# Altium footprint library CAY16-2201F4LF.PcbLib: 1 footprints
Each footprint in its own frame and in the unit in brackets; x right, y up, seen from the top. Pads: shape width x height; smd on the part's side, far side on the other; paste and mask are expansions set on the pad; w line width, h text height; cw(c..) or ccw(c..) is an arc to the next point about the centre after c.
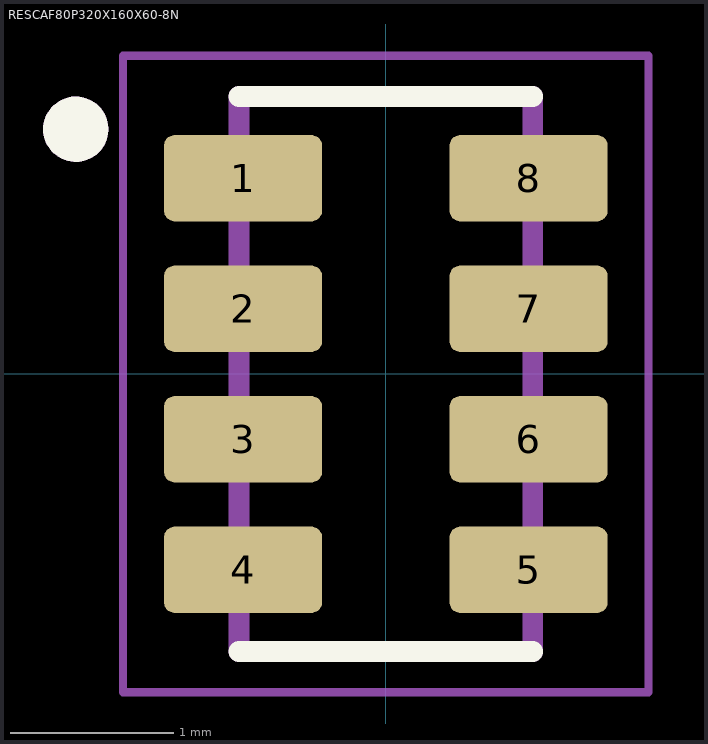
[diagram p0: the footprint, top view; thin cyan lines are the x and y axes]

## RESCAF80P320X160X60-8N [mm]
pads (8):
  rrect25% 0.97x0.53 smd: 1(-0.875,1.2) 2(-0.875,0.4) 3(-0.875,-0.4) 4(-0.875,-1.2) 5(0.875,-1.2) 6(0.875,-0.4) 7(0.875,0.4) 8(0.875,1.2)
Top Overlay:
  circle w0.2: c-1.9,1.5 r0.1
  lines w0.127: -0.9,-1.7 0.9,-1.7 ; -0.9,1.7 0.9,1.7
Mechanical 13:
  circle w0.2: c-1.9,1.5 r0.1
  lines w0.127: -0.9,-1.7 -0.9,1.7 0.9,1.7 0.9,-1.7 -0.9,-1.7
Mechanical 15:
  lines w0.05: -1.61,-1.95 -1.61,1.95 1.61,1.95 1.61,-1.95 -1.61,-1.95
3D body "step_temp.STEP": height 0.6, standoff 0, extent -1.6,-0.8 1.6,0.8